# Altium schematic symbol library TPS61240.SchLib: 1 symbol
Pins are listed as number, name and electrical type; pins without a type are passive.

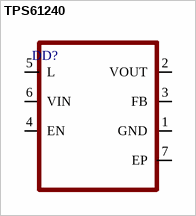
[diagram p0: symbol TPS61240]

## TPS61240
designator DD?
pins: 1 GND, 2 VOUT, 3 FB, 4 EN, 5 L, 6 VIN, 7 EP